# Altium footprint library 工控板PCB.PcbLib: 51 footprints (part 4 of 4)
Each footprint in its own frame and in the unit in brackets; x right, y up, seen from the top. Pads: shape width x height; smd on the part's side, far side on the other; paste and mask are expansions set on the pad; w line width, h text height; cw(c..) or ccw(c..) is an arc to the next point about the centre after c.
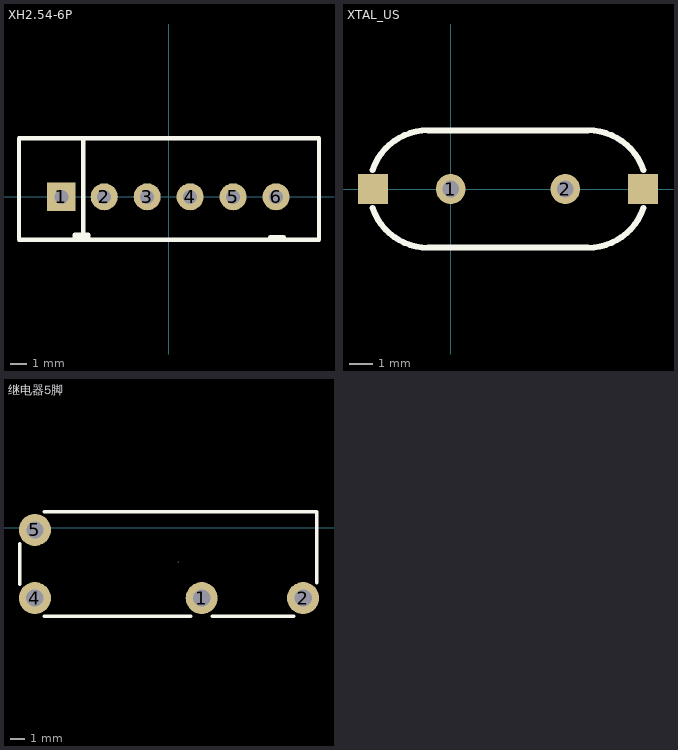
[diagram p3: the footprints below, top view; thin cyan lines are the x and y axes]

## XH2.54-6P [mm]
height 1.99
pads (6):
  rect 1.7x1.7 hole 0.83: 1(-6.35,0)
  round 1.6 hole 0.83: 2(-3.81,0) 3(-1.27,0) 4(1.27,0) 5(3.81,0) 6(6.35,0)
Top Overlay:
  lines w0.254: -5.55,-2.54 -5.55,-2.24 -4.75,-2.24 -4.75,-2.54 ; -5.5,-2.39 -4.75,-2.39 ; -5.05,-2.39 -5.05,3.46 ; 6,-2.54 6.8,-2.54 ; 6,-2.39 6.8,-2.39 ; -8.85,-2.54 8.89,-2.54 8.89,3.46 -8.85,3.46 -8.85,-2.54
3D body "XH2.54-6P.STEP": height 7, standoff -3.4, extent -8.713,-2.367 8.687,3.383

## XTAL_US [mil]
pads (4):
  round 50 hole 28: 1(0,0) 2(192.13,0)
  rect 50x50 smd: ""(-130.32,0) ""(322.44,0)
Top Overlay:
  lines w10: -130.92,-31.85 ccw(c-37.79,0) -37.79,-98.42 ; -130.92,31.85 cw(c-37.79,0) -37.79,98.43 ; -38,98.42 229.92,98.43 cw(c229.92,0) 323.05,31.85 ; -37.8,-98.43 229.92,-98.42 ccw(c229.92,0) 323.05,-31.85

## 继电器5脚 [mm]
pads (4):
  round 2.2 hole 1.2: 1(17.885,-4.846) 2(24.882,-4.846) 4(6.384,-4.846) 5(6.384,-0.147)
Top Overlay:
  lines w0.254: 5.334,-3.896 5.334,-1.096 ; 7.034,-6.096 17.134,-6.096 ; 7.034,1.104 25.834,1.104 25.834,-3.796 ; 18.634,-6.096 24.234,-6.096
Mechanical 15:
  lines w0.003: 16.268,-2.394 16.319,-2.344